# EAGLE library part ATMEGA328P_PU (library Let'sMakeMyFabduino)
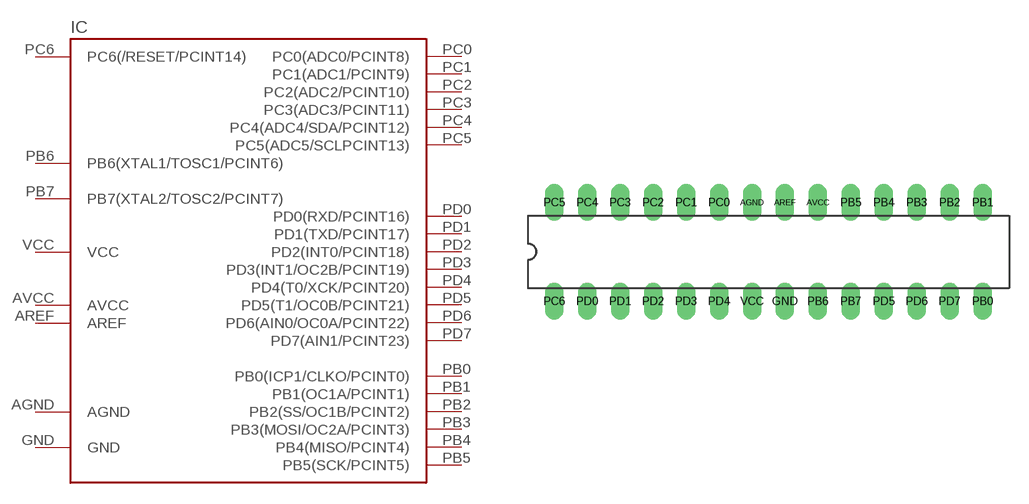
[diagram p1: symbol with the pads of ATMEGA328P_PU; footprint ATMEGA328P_PU]

Designator prefix IC

## ATMEGA328P_PU  [ATMEGA328P_PU]
AGND  AGND  pwr
AREF  AREF  pas
AVCC  AVCC  pas
GND  GND  pwr
PB0  PB0(ICP1/CLKO/PCINT0)
PB1  PB1(OC1A/PCINT1)
PB2  PB2(SS/OC1B/PCINT2)
PB3  PB3(MOSI/OC2A/PCINT3)
PB4  PB4(MISO/PCINT4)
PB5  PB5(SCK/PCINT5)
PB6  PB6(XTAL1/TOSC1/PCINT6)
PB7  PB7(XTAL2/TOSC2/PCINT7)
PC0  PC0(ADC0/PCINT8)
PC1  PC1(ADC1/PCINT9)
PC2  PC2(ADC2/PCINT10)
PC3  PC3(ADC3/PCINT11)
PC4  PC4(ADC4/SDA/PCINT12)
PC5  PC5(ADC5/SCLPCINT13)
PC6  PC6(/RESET/PCINT14)
PD0  PD0(RXD/PCINT16)
PD1  PD1(TXD/PCINT17)
PD2  PD2(INT0/PCINT18)
PD3  PD3(INT1/OC2B/PCINT19)
PD4  PD4(T0/XCK/PCINT20)
PD5  PD5(T1/OC0B/PCINT21)
PD6  PD6(AIN0/OC0A/PCINT22)
PD7  PD7(AIN1/PCINT23)
VCC  VCC  pwr

## Footprint ATMEGA328P_PU (pad centres in mm)
drill 0.9 pad 1.016 long: AGND 0,3.81; AREF 2.54,3.81; AVCC 5.08,3.81; GND 2.54,-3.81; PB0 17.78,-3.81; PB1 17.78,3.81; PB2 15.24,3.81; PB3 12.7,3.81; PB4 10.16,3.81; PB5 7.62,3.81; PB6 5.08,-3.81; PB7 7.62,-3.81; PC0 -2.54,3.81; PC1 -5.08,3.81; PC2 -7.62,3.81; PC3 -10.16,3.81; PC4 -12.7,3.81; PC5 -15.24,3.81; PC6 -15.24,-3.81; PD0 -12.7,-3.81; PD1 -10.16,-3.81; PD2 -7.62,-3.81; PD3 -5.08,-3.81; PD4 -2.54,-3.81; PD5 10.16,-3.81; PD6 12.7,-3.81; PD7 15.24,-3.81; VCC 0,-3.81